# Altium schematic symbol library SBC5.SchLib: 66 symbols (part 1 of 4)
Pins are listed as number, name and electrical type; pins without a type are passive.

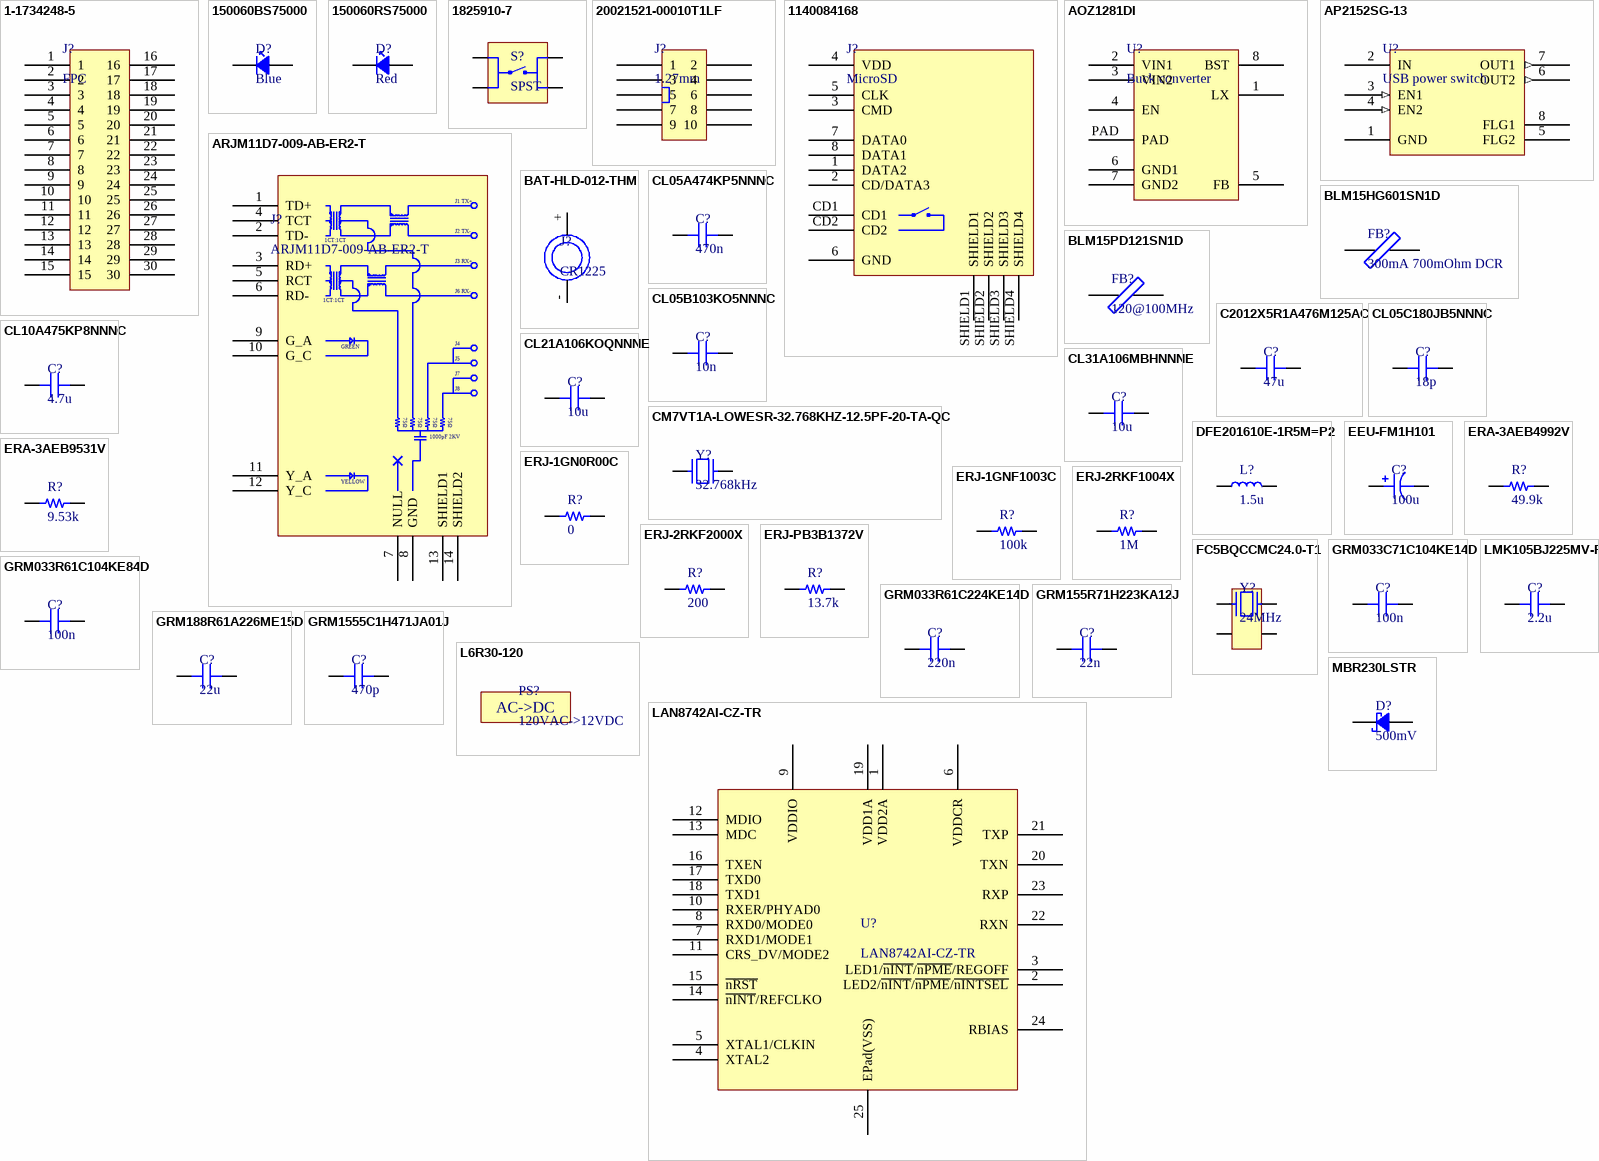
[diagram p0: symbols 1-1734248-5 to MBR230LSTR]

## 1-1734248-5
designator J?, comment FPC
FFC & FPC Connectors 15P 1.0 FPC, Zip V/T SMT; Manufacturer: TE Connectivity; Manufacturer Part Number: 1-1734248-5; Number of Contacts: 15; Current Rating: 1A; Voltage Rating: 125V; Gender: Receptacle; Shielding: Unshielded; Connector Type: Receptacle,Connector,Socket; Wire/Cable Type: Flat Flex; Connector System: Flex-to-Board; Mating Alignment: Yes (With); PCB Mount Alignment: No (Without); PCB Mount Retention: With; Circuit Application: Signal; Pitch: 1mm; Supplier 1: Digi-Key; Supplier Part Number 1: A101418CT-ND; RoHS: Yes; Category: FFC / FPC; Stock 1: 5987; Pricing 1: 1=0.98000, 10=0.86000, 25=0.80920, 50=0.77540, 100=0.74170, 250=0.67432, 500=0.60688 (USD); Mount: Surface Mount; Contact Plating: Gold; Contact Material: Bronze; Housing Color: Black; Housing Material: Thermoplastic; Min Operating Temperature: -4°C; Max Operating Temperature: 185°C; Number of Rows: 1; Termination: SMD/SMT; Orientation: Straight; Package Quantity: 1000; Packaging: Tape and Reel; Number of Positions: 15; Sealable: No (Without); Shrouded: Yes (With); Contact Current Rating: 1A; Length: 22.4mm; Width: 4.6mm; Height: 7.7mm; Depth: 4.6mm; ELV: Compliant; REACH SVHC: Unknown; Flammability Rating: UL94 V-0; ComponentLink1URL: https://datasheet.ciiva.com/672/eng-cd-1734248-e1-672176.pdf?src-supplier=Digi-Key; ComponentLink1Description: https://datasheet.ciiva.com/672/eng-cd-1734248-e1-672176.pdf?src-supplier=Digi-Key; ComponentLink2URL: https://datasheet.ciiva.com/672/eng-cd-1734248-e1-672177.pdf?src-supplier=Digi-Key; ComponentLink2Description: https://datasheet.ciiva.com/672/eng-cd-1734248-e1-672177.pdf?src-supplier=Digi-Key; ComponentLink3URL: https://datasheet.ciiva.com/672/eng-cd-1734248-e1-672178.pdf?src-supplier=Digi-Key; ComponentLink3Description: https://datasheet.ciiva.com/672/eng-cd-1734248-e1-672178.pdf?src-supplier=Digi-Key; ComponentLink4URL: https://datasheet.ciiva.com/7989/eng-ds-1-1773440-6-0506-7989477.pdf?src-supplier=Element14; ComponentLink4Description: https://datasheet.ciiva.com/7989/eng-ds-1-1773440-6-0506-7989477.pdf?src-supplier=Element14; ComponentLink5URL: https://datasheet.ciiva.com/16660/eng-ds-1-1773440-6-0506-16660185.pdf?src-supplier=Avnet+Europe; ComponentLink5Description: https://datasheet.ciiva.com/16660/eng-ds-1-1773440-6-0506-16660185.pdf?src-supplier=Avnet+Europe
footprint 1-1734248-5
pins: 1, 2, 3, 4, 5, 6, 7, 8, 9, 10, 11, 12, 13, 14, 15, 16, 17, 18, 19, 20, 21, 22, 23, 24, 25, 26, 27, 28, 29, 30

## 150060BS75000
designator D?, comment Blue
WURTH ELEKTRONIK - 150060BS75000 - LED, Blau, Oberflächenmontage, 603, 30 mA, 3.2 V, 470 nm; Manufacturer: Wurth Electronics; Luminous Intensity: 145mcd; Forward Current: 30mA; Forward Voltage: 3.2V; Wavelength: 470nm; Viewing Angle: 140°; Lens Style: Clear,Rectangular; Test Current: 20mA; Supplier 1: Digi-Key; Supplier Part Number 1: 732-4966-1-ND; Manufacturer Part Number: 150060BS75000; RoHS: Yes; Category: LEDs; Stock 1: 49172; Pricing 1: 1=0.17000 (USD); Mount: Surface Mount; Case/Package: 0603; Color: Blue; Case Code (Metric): 1608; Case Code (Imperial): 0603; Min Operating Temperature: -40°C; Max Operating Temperature: 85°C; Package Quantity: 4000; Packaging: Cut Tape; Dominant Wavelength: 470nm; Length: 1.6mm; Width: 0.8mm; Height: 0.7mm; REACH SVHC: Unknown; RoHS Compliant: Yes; ComponentLink1URL: https://datasheet.ciiva.com/29563/150060bs75000-29563034.pdf?src-supplier=Digi-Key; ComponentLink1Description: https://datasheet.ciiva.com/29563/150060bs75000-29563034.pdf?src-supplier=Digi-Key; ComponentLink2URL: https://datasheet.ciiva.com/29279/759426-da-01-en-chipled-0603-w-kl-blau-150060bs75000-29279193.pdf?src-supplier=Conrad; ComponentLink2Description: https://datasheet.ciiva.com/29279/759426-da-01-en-chipled-0603-w-kl-blau-150060bs75000-29279193.pdf?src-supplier=Conrad; ComponentLink3URL: https://datasheet.ciiva.com/29563/150060bs75000-29563035.pdf?src-supplier=Digi-Key; ComponentLink3Description: https://datasheet.ciiva.com/29563/150060bs75000-29563035.pdf?src-supplier=Digi-Key; ComponentLink4URL: https://datasheet.ciiva.com/22656/1911343-22656939.pdf?src-supplier=Element14; ComponentLink4Description: https://datasheet.ciiva.com/22656/1911343-22656939.pdf?src-supplier=Element14; ComponentLink5URL: https://datasheet.ciiva.com/29563/150060bs75000-29563036.pdf?src-supplier=Digi-Key; ComponentLink5Description: https://datasheet.ciiva.com/29563/150060bs75000-29563036.pdf?src-supplier=Digi-Key; ComponentLink6URL: https://datasheet.ciiva.com/48430/150060bs75000-eng-tds-48430039.pdf?src-supplier=Distrelec; ComponentLink6Description: https://datasheet.ciiva.com/48430/150060bs75000-eng-tds-48430039.pdf?src-supplier=Distrelec
footprint D0603
pins: A, K

## 150060RS75000
designator D?, comment Red
WURTH ELEKTRONIK - 150060RS75000 - LED, Red, 625 nm, 2 V, 30 mA, 250 mcd RoHS Compliant: Yes; Manufacturer: Wurth Electronics; Viewing Angle: 140°; Lens Style: Clear,Rectangular; Luminous Intensity: 250mcd; Forward Current: 30mA; Forward Voltage: 2V; Wavelength: 625nm; Test Current: 20mA; Supplier 1: Digi-Key; Supplier Part Number 1: 732-4978-1-ND; Manufacturer Part Number: 150060RS75000; RoHS: Yes; Category: LEDs; Stock 1: 175802; Pricing 1: 1=0.14000, 50=0.13300, 100=0.11400, 500=0.09990 (USD); Mount: Surface Mount; Case/Package: 0603; Color: Red; Case Code (Metric): 1608; Case Code (Imperial): 0603; Min Operating Temperature: -40°C; Max Operating Temperature: 85°C; Package Quantity: 1; Packaging: Cut Tape; Dominant Wavelength: 625nm; Length: 1.6mm; Width: 0.8mm; Height: 0.7mm; REACH SVHC: Unknown; RoHS Compliant: Yes; ComponentLink1URL: https://datasheet.ciiva.com/29563/150060rs75000-29563040.pdf?src-supplier=Digi-Key; ComponentLink1Description: https://datasheet.ciiva.com/29563/150060rs75000-29563040.pdf?src-supplier=Digi-Key; ComponentLink2URL: https://datasheet.ciiva.com/29279/759428-da-01-en-chipled-0603-w-kl-rot-150060rs75000-29279196.pdf?src-supplier=Conrad; ComponentLink2Description: https://datasheet.ciiva.com/29279/759428-da-01-en-chipled-0603-w-kl-rot-150060rs75000-29279196.pdf?src-supplier=Conrad
footprint D0603
pins: A, K

## 1825910-7
designator S?, comment SPST
TE CONNECTIVITY / ALCOSWITCH         1825910-7             Tactile Switch, Non Illuminated, 24 V, 50 mA, 260 gf, Through Hole; Mechanical Life: 100000Cycles; Actuator Material: PBT; Actuator Color: Red; Operating Force: 2.55N; Max Voltage Rating (DC): 24V; Illumination Type: Non-Illuminated,Illuminated; Contact Resistance: 100mR; Contact Current Rating: 50mA; Switch Travel: 0.25mm; Switch Function: Off-Mom; Actuator Type: Standard; Actuator Length: 0.055inch; Supplier 1: Digi-Key; Supplier Part Number 1: 450-1804-ND; Manufacturer: TE Connectivity; Manufacturer Part Number: 1825910-7; RoHS: Yes; Category: Pushbutton Switches; Stock 1: 14477; Pricing 1: 1=0.11000, 10=0.10600, 25=0.10080, 100=0.09160, 250=0.08612, 500=0.07878, 1000=0.06595, 5000=0.06046, 10000=0.05679 (USD); Mount: Through Hole; Contact Material: Copper Alloy; Contact Plating: Silver; Min Operating Temperature: -35°C; Max Operating Temperature: 85°C; Throw Configuration: SPST; Termination: PC Pins; Packaging: Loose Piece; Package Quantity: 750; Type: Switch; Voltage Rating (DC): 24V; Electrical Life: 100000Cycles; Orientation: Straight; Series: FSMJ; Max Current Rating: 50mA; Length: 5.99mm; Depth: 7.8mm; Radiation Hardening: No; RoHS Compliant: Yes; REACH SVHC: Unknown; ELV: Compliant; Lead Free: Lead Free; ComponentLink1URL: https://datasheet.ciiva.com/30117/17-30117153.pdf?src-supplier=Onlinecomponents.com; ComponentLink1Description: https://datasheet.ciiva.com/30117/17-30117153.pdf?src-supplier=Onlinecomponents.com; ComponentLink2URL: https://datasheet.ciiva.com/16312/1825910-7-16312610.pdf?src-supplier=Future+Electronics; ComponentLink2Description: https://datasheet.ciiva.com/16312/1825910-7-16312610.pdf?src-supplier=Future+Electronics; ComponentLink3URL: https://datasheet.ciiva.com/16987/0900766b808a3755-16987820.pdf?src-supplier=Allied+Electronics; ComponentLink3Description: https://datasheet.ciiva.com/16987/0900766b808a3755-16987820.pdf?src-supplier=Allied+Electronics
footprint 1825910-7
pins: 1, 2, 3, 4

## 20021521-00010T1LF
designator J?, comment 1.27mm
CONN HEADER SMD 10POS 1.27MM; Manufacturer: Amphenol FCI; Manufacturer Part Number: 20021521-00010T1LF; Number of Positions: 10; Connector Type: Male Pin; Current Rating: 1A; Voltage Rating: 125V; Contact Resistance: 30mR; Gender: Male; Row Spacing: 0.05inch; Supplier 1: Digi-Key; Supplier Part Number 1: 609-4054-ND; RoHS: Yes; Category: Headers and Wire Housings; Stock 1: 5644; Pricing 1: 1=1.26000, 10=1.10500, 100=0.95300, 500=0.77976, 1000=0.69312, 5000=0.60648, 10000=0.57616 (USD); Mount: Surface Mount; Contact Plating: Gold; Contact Material: Copper Alloy; Color: Black; Housing Color: Black; Housing Material: Plastic; Min Operating Temperature: -40°C; Max Operating Temperature: 85°C; Number of Rows: 2; Termination: SMD/SMT; Packaging: Rail/Tube; Number of Contacts: 10; Package Quantity: 22; Max Voltage Rating (AC): 125V; Orientation: Straight; Series: Minitek; Length: 10.11mm; Pitch: 1.27mm; Depth: 5.1mm; REACH SVHC: No SVHC; Lead Free: Lead Free; RoHS Compliant: Yes; ComponentLink1URL: https://datasheet.ciiva.com/26900/getdatasheetpartid-733986-26900911.pdf?src-supplier=Verical; ComponentLink1Description: https://datasheet.ciiva.com/26900/getdatasheetpartid-733986-26900911.pdf?src-supplier=Verical; ComponentLink2URL: https://datasheet.ciiva.com/10140/20021521-10140598.pdf?src-supplier=Avnet; ComponentLink2Description: https://datasheet.ciiva.com/10140/20021521-10140598.pdf?src-supplier=Avnet; ComponentLink3URL: https://datasheet.ciiva.com/17011/70277217-17011530.pdf?src-supplier=Allied+Electronics; ComponentLink3Description: https://datasheet.ciiva.com/17011/70277217-17011530.pdf?src-supplier=Allied+Electronics; ComponentLink4URL: https://datasheet.ciiva.com/16691/20021521-16691102.pdf?src-supplier=Avnet+Europe; ComponentLink4Description: https://datasheet.ciiva.com/16691/20021521-16691102.pdf?src-supplier=Avnet+Europe
footprint 20021521-00010T1LF
pins: 1, 2, 3, 4, 5, 6, 7, 8, 9, 10

## 1140084168
designator J?, comment MicroSD
Conn; IC Socket; Micro SD; Right Angle; PCB Mount; MicroSD Ser.; Manufacturer: Amphenol Commercial; Manufacturer Part Number: 1140084168; Connector Type: Connector; Number of Contacts: 8; Gender: Receptacle; Pitch: 1.1mm; Supplier 1: Digi-Key; Supplier Part Number 1: 114-00841-68-1-ND; RoHS: Yes; Category: Memory Connectors; Stock 1: 15252; Pricing 1: 1=1.26000, 10=1.14000, 25=1.07000, 50=1.02360, 100=0.97710, 250=0.88408, 500=0.81428 (USD); Mount: Surface Mount; Contact Plating: Gold; Housing Material: Polymer; Contact Material: Copper Alloy,Copper; Packaging: Tape and Reel; Orientation: Right Angle; Package Quantity: 7500; Number of Rows: 1; Termination: SMD/SMT; Length: 15.6mm; Height: 1.55mm; Depth: 11.45mm; Radiation Hardening: No; REACH SVHC: Unknown; Flammability Rating: UL94 V-0; Lead Free: Lead Free; ComponentLink1URL: https://datasheet.ciiva.com/24241/11400841-283410-24241569.pdf?src-supplier=Mouser; ComponentLink1Description: https://datasheet.ciiva.com/24241/11400841-283410-24241569.pdf?src-supplier=Mouser; ComponentLink2URL: https://datasheet.ciiva.com/28408/11400841-28408193.pdf?src-supplier=Element14; ComponentLink2Description: https://datasheet.ciiva.com/28408/11400841-28408193.pdf?src-supplier=Element14; ComponentLink3URL: https://datasheet.ciiva.com/9464/1140084168-9464901.pdf?src-supplier=Avnet; ComponentLink3Description: https://datasheet.ciiva.com/9464/1140084168-9464901.pdf?src-supplier=Avnet; ComponentLink4URL: https://datasheet.ciiva.com/48965/70323450-48965706.pdf?src-supplier=Allied+Electronics; ComponentLink4Description: https://datasheet.ciiva.com/48965/70323450-48965706.pdf?src-supplier=Allied+Electronics; ComponentLink5URL: https://datasheet.ciiva.com/16655/1140084168-16655293.pdf?src-supplier=Avnet+Europe; ComponentLink5Description: https://datasheet.ciiva.com/16655/1140084168-16655293.pdf?src-supplier=Avnet+Europe
footprint 114-00841-68
pins: 1 DATA2, 2 CD/DATA3, 3 CMD, 4 VDD, 5 CLK, 6 GND, 7 DATA0, 8 DATA1, CD1, CD2, SHIELD1, SHIELD2, SHIELD3, SHIELD4

## AOZ1281DI
designator U?, comment Buck converter
Conv DC-DC 3V to 26V Step Down Single-Out 0.8V to 22.1V 1.8A 8-Pin DFN EP T/R; Manufacturer: Alpha & Omega Semiconductor; Manufacturer Part Number: AOZ1281DI; Number of Outputs: 1; Efficiency: 95%; Min Output Voltage: 800mV; Switching Frequency: 1.5MHz; Synchronous Rectifier: No; Output Type: Adjustable; Output Configuration: Positive; Supplier 1: Digi-Key; Supplier Part Number 1: 785-1276-1-ND; RoHS: Yes; Category: Voltage Regulators - Switching; Stock 1: 15925; Pricing 1: 1=0.81000, 10=0.71400, 25=0.67040, 100=0.50820, 250=0.43248, 500=0.41086, 1000=0.31355 (USD); Mount: Surface Mount; Case/Package: DFN; Number of Pins: 8; Min Operating Temperature: -40°C; Max Operating Temperature: 85°C; Output Current: 1.8A; Packaging: Tape and Reel; Min Input Voltage: 3V; Max Input Voltage: 26V; Max Output Voltage: 22.1V; Series: EZBuck™; RoHS Compliant: Yes; ComponentLink1URL: https://datasheet.ciiva.com/2028/aoz1281di-2028092.pdf?src-supplier=Digi-Key; ComponentLink1Description: https://datasheet.ciiva.com/2028/aoz1281di-2028092.pdf?src-supplier=Digi-Key; ComponentLink2URL: https://datasheet.ciiva.com/2028/aoz1281di-2028093.pdf?src-supplier=Digi-Key; ComponentLink2Description: https://datasheet.ciiva.com/2028/aoz1281di-2028093.pdf?src-supplier=Digi-Key; ComponentLink3URL: https://datasheet.ciiva.com/2028/aoz1281di-2028094.pdf?src-supplier=Digi-Key; ComponentLink3Description: https://datasheet.ciiva.com/2028/aoz1281di-2028094.pdf?src-supplier=Digi-Key
footprint AOZ1281DI (PQFN, 8-Leads, Body 2.00x2.00mm, Pitch 0.50mm, Thermal Pad 0.90x1.50mm, IPC Medium Density)
pins: 1 LX, 2 VIN1, 3 VIN2, 4 EN, 5 FB, 6 GND1, 7 GND2, 8 BST, PAD

## AP2152SG-13
designator U?, comment USB power switch
IC PWR SW USB 2CH 0.5A 8-SOIC; Manufacturer: Diodes; Manufacturer Part Number: AP2152SG-13; Number of Outputs: 2; Current Rating: 800mA; Max Supply Voltage: 5.5V; Min Supply Voltage: 2.7V; Interface: On/Off; Max Output Current: 500mA; On-State Resistance: 150mR; Fault Protection: Over Temperature,Reverse Current; Output Configuration: High Side; On-state Resistance-Max: 160MR; Supplier 1: Digi-Key; Supplier Part Number 1: AP2152SGDICT-ND; RoHS: Yes; Category: Hot Swap Controllers; Stock 1: 9416; Pricing 1: 1=0.48000, 10=0.41200, 25=0.38480, 100=0.28600, 250=0.24200, 500=0.23100 (USD); Mount: Surface Mount; Case/Package: SOP; Number of Pins: 8; Weight: 0.00261oz; Min Operating Temperature: -40°C; Max Operating Temperature: 85°C; Packaging: Tape and Reel; Package Quantity: 2500; Series: -; Number of Switches: 2; Rated Current-Max: 800mA; Radiation Hardening: No; Lead Free: Lead Free; RoHS Compliant: Yes; ComponentLink1URL: https://datasheet.ciiva.com/15108/getdatasheetpartid-687500-15108893.pdf?src-supplier=Verical; ComponentLink1Description: https://datasheet.ciiva.com/15108/getdatasheetpartid-687500-15108893.pdf?src-supplier=Verical; ComponentLink2URL: https://datasheet.ciiva.com/16415/ap2142-52-16415693.pdf?src-supplier=Future+Electronics; ComponentLink2Description: https://datasheet.ciiva.com/16415/ap2142-52-16415693.pdf?src-supplier=Future+Electronics; ComponentLink3URL: https://datasheet.ciiva.com/4924/ap2142-52-4924670.pdf?src-supplier=Mouser; ComponentLink3Description: https://datasheet.ciiva.com/4924/ap2142-52-4924670.pdf?src-supplier=Mouser; ComponentLink4URL: https://datasheet.ciiva.com/17226/ap2142-52-17226168.pdf?src-supplier=Avnet+Europe; ComponentLink4Description: https://datasheet.ciiva.com/17226/ap2142-52-17226168.pdf?src-supplier=Avnet+Europe; ComponentLink5URL: https://datasheet.ciiva.com/3234/ap2142-52-3234540.pdf?src-supplier=Avnet; ComponentLink5Description: https://datasheet.ciiva.com/3234/ap2142-52-3234540.pdf?src-supplier=Avnet
footprint SO-8 (SOP, 8-Leads, Body 4.90x3.90mm, Pitch 1.27mm, IPC Medium Density)
pins: 1 GND, 2 IN (power), 3 EN1 (in), 4 EN2 (in), 5 FLG2 (oc), 6 OUT2 (out), 7 OUT1 (out), 8 FLG1 (oc)

## ARJM11D7-009-AB-ER2-T
designator J?
Conn RJ-45 F 8 POS 1.27mm Solder RA Thru-Hole 12 Terminal 1 Port T/R; Manufacturer: Abracon; Connector Type: RJ45; Direction: Up; Number of Ports: 1; Number of Cores per Jack: 4; Shielding: Shielded; Supplier 1: Digi-Key; Supplier Part Number 1: 535-14135-1-ND; Manufacturer Part Number: ARJM11D7-009-AB-ER2-T; RoHS: No; Category: Modular / Ethernet Connectors; Stock 1: 19; Pricing 1: 1=3.53000, 10=3.38700, 25=3.10480 (USD); Mount: Through Hole; Color: Green,Yellow; Contact Plating: Gold; Min Operating Temperature: -40°C; Max Operating Temperature: 85°C; Packaging: Tape and Reel; Number of Rows: 1; Termination: Solder; ComponentLink1URL: https://abracon.com/Magnetics/ARJM11.pdf?src-supplier=Digi-Key; ComponentLink1Description: https://abracon.com/Magnetics/ARJM11.pdf?src-supplier=Digi-Key
footprint ARJM11D7-009-AB-ER2-T
pins: 1 TD+ "Default Function: MIPI_VDDA_1P8", 2 TD- "Default Function: MIPI_VDDA_1P8", 3 RD+ "Default Function: MIPI_VDDA_1P8", 4 TCT "Default Function: MIPI_VDDA_1P8", 5 RCT "Default Function: MIPI_VDDA_1P8", 6 RD- "Default Function: MIPI_VDDA_1P8", 7 NULL, 8 GND, 9 G_A "Default Function: MIPI_VDDA_1P8", 10 G_C "Default Function: MIPI_VDDA_1P8", 11 Y_A "Default Function: MIPI_VDDA_1P8", 12 Y_C "Default Function: MIPI_VDDA_1P8", 13 SHIELD1 "Default Function: MIPI_VDDA_1P8", 14 SHIELD2 "Default Function: MIPI_VDDA_1P8"
text: J1 TX+; J2 TX-; 1CT:1CT; J3 RX+; J6 RX-; GREEN; J4; J5; J7; J8; 75Ω; 1000pF 2KV; YELLOW

## BAT-HLD-012-THM
designator J?, comment CR1225
BATTERY RETAINER COIN PC PIN; Manufacturer: Linx; Manufacturer Part Number: BAT-HLD-012-THM; Number of Cells: 1; Supplier 1: Digi-Key; Supplier Part Number 1: BAT-HLD-012-THM-ND; RoHS: Yes; Category: Uncategorized; Stock 1: 1284; Pricing 1: 1=0.29000, 10=0.27800, 25=0.26600, 100=0.24100, 250=0.23000, 500=0.21900, 1000=0.19600, 2000=0.18000, 5000=0.17765 (USD); Mount: Through Hole,PCB; Termination: PC Pin; Package Quantity: 1000; Number of Batteries: 1; Lead Free: Lead Free; ComponentLink1URL: https://datasheet.ciiva.com/4/bat-hld-012-thm-4039.pdf?src-supplier=Digi-Key; ComponentLink1Description: https://datasheet.ciiva.com/4/bat-hld-012-thm-4039.pdf?src-supplier=Digi-Key; ComponentLink2URL: https://datasheet.ciiva.com/4642/bat-hld-012-thm20diagram-201689-4642575.pdf?src-supplier=Mouser; ComponentLink2Description: https://datasheet.ciiva.com/4642/bat-hld-012-thm20diagram-201689-4642575.pdf?src-supplier=Mouser
footprint BAT-HLD-012-THM
pins: + (power), -

## BLM15HG601SN1D
designator FB?, comment 300mA 700mOhm DCR
Ferrite Beads Multi-Layer 600Ohm 25% 100MHz 300mA 700mOhm DCR 0402 Paper T/R; Manufacturer: Murata; Manufacturer Part Number: BLM15HG601SN1D; Material: Steel,Ferrite; Impedance: 600R; Number of Lines: 1; DC Resistance (DCR): 700mR; Shielding: Unshielded; Supplier 1: Digi-Key; Supplier Part Number 1: 490-3998-1-ND; RoHS: Yes; Category: Ferrite Beads and Chips; Stock 1: 75790; Pricing 1: 1=0.21000, 10=0.17000, 25=0.13200, 50=0.10940, 100=0.09430, 250=0.07540, 500=0.06786, 1000=0.05655, 5000=0.05278 (USD); Case/Package: 0402; Number of Pins: 2; Core Material: Ferrite; Case Code (Metric): 1005; Case Code (Imperial): 0402; Min Operating Temperature: -55°C; Max Operating Temperature: 125°C; Package Quantity: 1; Tolerance: 25%; Packaging: Tape and Reel; Current Rating: 300mA; Max Current Rating: 300mA; Max DC Current: 300mA; Termination: SMD/SMT; Test Frequency: 100MHz; DC Current: 300mA; Frequency: 100MHz; Number of Circuits: 1; Length: 1mm; Width: 0.5mm; Height: 0.5mm; Depth: 0.5mm; Radiation Hardening: No; REACH SVHC: No SVHC; Military Standard: Not; Lead Free: Lead Free; ComponentLink1URL: https://datasheet.ciiva.com/18183/getdatasheetpartid-238207-18183177.pdf?src-supplier=Verical; ComponentLink1Description: https://datasheet.ciiva.com/18183/getdatasheetpartid-238207-18183177.pdf?src-supplier=Verical; ComponentLink2URL: https://datasheet.ciiva.com/41449/001172204-da-01-en-drossel-0402-600r-1-0x0-5mm-10000st-41449492.pdf?src-supplier=Conrad; ComponentLink2Description: https://datasheet.ciiva.com/41449/001172204-da-01-en-drossel-0402-600r-1-0x0-5mm-10000st-41449492.pdf?src-supplier=Conrad; ComponentLink3URL: https://datasheet.ciiva.com/41425/001171685-da-01-en-chip-drossel0402-600r-300ma-1-0x0-5mm-41425771.pdf?src-supplier=Conrad; ComponentLink3Description: https://datasheet.ciiva.com/41425/001171685-da-01-en-chip-drossel0402-600r-300ma-1-0x0-5mm-41425771.pdf?src-supplier=Conrad; ComponentLink4URL: https://datasheet.ciiva.com/1014/l0110s0101blm15h-1014466.pdf?src-supplier=Digi-Key; ComponentLink4Description: https://datasheet.ciiva.com/1014/l0110s0101blm15h-1014466.pdf?src-supplier=Digi-Key; ComponentLink5URL: https://datasheet.ciiva.com/1014/l0110s0101blm15h-1014467.pdf?src-supplier=Digi-Key; ComponentLink5Description: https://datasheet.ciiva.com/1014/l0110s0101blm15h-1014467.pdf?src-supplier=Digi-Key; ComponentLink6URL: https://datasheet.ciiva.com/1466/5168-1466917.pdf?src-supplier=Element14; ComponentLink6Description: https://datasheet.ciiva.com/1466/5168-1466917.pdf?src-supplier=Element14; ComponentLink7URL: https://datasheet.ciiva.com/1466/5168-1466918.pdf?src-supplier=Element14; ComponentLink7Description: https://datasheet.ciiva.com/1466/5168-1466918.pdf?src-supplier=Element14; ComponentLink8URL: https://datasheet.ciiva.com/3081/l0110s0101blm15h-3081608.pdf?src-supplier=Avnet; ComponentLink8Description: https://datasheet.ciiva.com/3081/l0110s0101blm15h-3081608.pdf?src-supplier=Avnet; ComponentLink9URL: https://datasheet.ciiva.com/6212/l0110s0101blm15h-6212328.pdf?src-supplier=Digi-Key; ComponentLink9Description: https://datasheet.ciiva.com/6212/l0110s0101blm15h-6212328.pdf?src-supplier=Digi-Key; ComponentLink10URL: https://datasheet.ciiva.com/16204/l0110s0101blm15h-16204027.pdf?src-supplier=Future+Electronics; ComponentLink10Description: https://datasheet.ciiva.com/16204/l0110s0101blm15h-16204027.pdf?src-supplier=Future+Electronics
footprint L0402
pins: 1, 2

## BLM15PD121SN1D
designator FB?, comment 120@100MHz
MURATA - BLM15PD121SN1D - Ferrite Bead, 0402 [1005 Metric], 120 ohm, 1.3 A, BLM15PD Series, 0.09 ohm, ± 25%; Material: Steel,Ferrite; Impedance: 120R; DC Resistance (DCR): 90mR; Max DC Current: 1.3A; Number of Lines: 1; Test Frequency: 100MHz; Supplier 1: Digi-Key; Supplier Part Number 1: 490-5203-1-ND; Manufacturer: Murata; Manufacturer Part Number: BLM15PD121SN1D; RoHS: Yes; Category: Inductors; Stock 1: 519984; Pricing 1: 1=0.10000, 10=0.07900, 25=0.07080, 50=0.05180, 100=0.04480, 250=0.03536, 500=0.02984, 1000=0.02514, 5000=0.02239 (USD); Case/Package: 0402; Number of Pins: 2; Core Material: Ferrite; Case Code (Metric): 1005; Case Code (Imperial): 0402; Min Operating Temperature: -55°C; Max Operating Temperature: 125°C; Tolerance: 25%; Package Quantity: 1; Packaging: Tape and Reel; Current Rating: 1.3A; Max Current Rating: 1.3A; Termination: SMD/SMT; DC Current: 1.3A; Number of Circuits: 1; Series: BLM15PD; DC Resistance-Max: 90mR; Length: 1mm; Width: 0.5mm; Height: 0.5mm; Depth: 0.55mm; Radiation Hardening: No; REACH SVHC: No SVHC; Military Standard: Not; Lead Free: Lead Free; RoHS Compliant: Yes; ComponentLink1URL: https://datasheet.ciiva.com/18093/getdatasheetpartid-195858-18093157.pdf?src-supplier=Verical; ComponentLink1Description: https://datasheet.ciiva.com/18093/getdatasheetpartid-195858-18093157.pdf?src-supplier=Verical; ComponentLink2URL: https://datasheet.ciiva.com/11800/0900766b811b5866-11800860.pdf?src-supplier=RSComponents; ComponentLink2Description: https://datasheet.ciiva.com/11800/0900766b811b5866-11800860.pdf?src-supplier=RSComponents; ComponentLink3URL: https://datasheet.ciiva.com/41425/001171686-da-01-en-chip-drossel0402-120r-1300ma-1-0x0-5mm-41425776.pdf?src-supplier=Conrad; ComponentLink3Description: https://datasheet.ciiva.com/41425/001171686-da-01-en-chip-drossel0402-120r-1300ma-1-0x0-5mm-41425776.pdf?src-supplier=Conrad; ComponentLink4URL: https://datasheet.ciiva.com/41449/001172205-da-01-en-drossel-0402-120r-11-0x0-5mm-10000st-41449495.pdf?src-supplier=Conrad; ComponentLink4Description: https://datasheet.ciiva.com/41449/001172205-da-01-en-drossel-0402-120r-11-0x0-5mm-10000st-41449495.pdf?src-supplier=Conrad; ComponentLink5URL: https://datasheet.ciiva.com/1012/l0110e-1012434.pdf?src-supplier=Digi-Key; ComponentLink5Description: https://datasheet.ciiva.com/1012/l0110e-1012434.pdf?src-supplier=Digi-Key; ComponentLink6URL: https://datasheet.ciiva.com/1012/l0110e-1012435.pdf?src-supplier=Digi-Key; ComponentLink6Description: https://datasheet.ciiva.com/1012/l0110e-1012435.pdf?src-supplier=Digi-Key; ComponentLink7URL: https://datasheet.ciiva.com/1012/l0110e-1012436.pdf?src-supplier=Digi-Key; ComponentLink7Description: https://datasheet.ciiva.com/1012/l0110e-1012436.pdf?src-supplier=Digi-Key
footprint L0402
pins: 1, 2

## C2012X5R1A476M125AC
designator C?, comment 47u
TDK   C2012X5R1A476M125AC   SMD Multilayer Ceramic Capacitor, C Series, 47 F,  20%, X5R, 10 V, 0805 [2012 Metric]; Capacitance: 47uF; Voltage Rating: 10V; Supplier 1: Digi-Key; Supplier Part Number 1: 445-8239-1-ND; Manufacturer: TDK; Manufacturer Part Number: C2012X5R1A476M125AC; RoHS: Yes; Category: Ceramic Capacitors; Stock 1: 147108; Pricing 1: 1=0.85000, 10=0.64400, 50=0.53460, 100=0.46040, 500=0.35640, 1000=0.30690 (USD); Mount: Surface Mount; Case/Package: 0805; Case Code (Metric): 2012; Case Code (Imperial): 0805; Dielectric Material: Ceramic; Weight: 0.000194oz; Min Operating Temperature: -55°C; Max Operating Temperature: 85°C; Tolerance: 20%; Packaging: Tape and Reel; Voltage Rating (DC): 10V; Dielectric: X5R; Termination: SMD/SMT; Package Quantity: 1; Resistor Type: Ceramic; Voltage: 10V; Series: C; Length: 2mm; Width: 0.049inch; Height: 1.25mm; Depth: 1.25mm; Thickness: 0.057inch; REACH SVHC: No SVHC; Lead Free: Lead Free; RoHS Compliant: Yes; ComponentLink1URL: https://datasheet.ciiva.com/24216/c2012x5r1a476m125ac-264921-24216523.pdf?src-supplier=Mouser; ComponentLink1Description: https://datasheet.ciiva.com/24216/c2012x5r1a476m125ac-264921-24216523.pdf?src-supplier=Mouser; ComponentLink2URL: https://datasheet.ciiva.com/24191/c2012x5r1a476m125ac-24191773.pdf?src-supplier=Future+Electronics; ComponentLink2Description: https://datasheet.ciiva.com/24191/c2012x5r1a476m125ac-24191773.pdf?src-supplier=Future+Electronics; ComponentLink3URL: https://datasheet.ciiva.com/6259/tdkmlcccaprange-6259575.pdf?src-supplier=Digi-Key; ComponentLink3Description: https://datasheet.ciiva.com/6259/tdkmlcccaprange-6259575.pdf?src-supplier=Digi-Key; ComponentLink4URL: https://datasheet.ciiva.com/6259/tdkmlcccaprange-6259576.pdf?src-supplier=Digi-Key; ComponentLink4Description: https://datasheet.ciiva.com/6259/tdkmlcccaprange-6259576.pdf?src-supplier=Digi-Key; ComponentLink5URL: https://datasheet.ciiva.com/6259/tdkmlcccaprange-6259577.pdf?src-supplier=Digi-Key; ComponentLink5Description: https://datasheet.ciiva.com/6259/tdkmlcccaprange-6259577.pdf?src-supplier=Digi-Key; ComponentLink6URL: https://datasheet.ciiva.com/7975/1796654-7975085.pdf?src-supplier=Element14; ComponentLink6Description: https://datasheet.ciiva.com/7975/1796654-7975085.pdf?src-supplier=Element14; ComponentLink7URL: https://datasheet.ciiva.com/22694/1796654-22694142.pdf?src-supplier=Element14; ComponentLink7Description: https://datasheet.ciiva.com/22694/1796654-22694142.pdf?src-supplier=Element14
footprint C0805 (Chip Capacitor, 2-Leads, Body 2.00x1.25mm, IPC Medium Density)
pins: 1, 2

## CL05A474KP5NNNC
designator C?, comment 470n
Cap Ceramic 0.47uF 10V X5R 10% SMD 0402 85C T/R; Manufacturer: Samsung; Manufacturer Part Number: CL05A474KP5NNNC; Capacitance: 470nF; Supplier 1: Digi-Key; Supplier Part Number 1: 1276-1173-1-ND; RoHS: Yes; Category: Ceramic Capacitors; Stock 1: 1598783; Pricing 1: 1=0.10000, 10=0.06000, 50=0.03260, 100=0.02670, 500=0.01906, 1000=0.01497, 2500=0.01361, 5000=0.01252 (USD); Mount: Surface Mount; Case/Package: 0402; Case Code (Metric): 1005; Case Code (Imperial): 0402; Min Operating Temperature: -55°C; Max Operating Temperature: 85°C; Tolerance: 10%; Dielectric: X5R; Packaging: Tape and Reel; Voltage Rating: 10V; Voltage Rating (DC): 10V; Series: CL; Construction: Flat; Length: 1mm; Width: 0.02inch; Height: 0.5mm; Thickness: 0.022inch; Depth: 0.5mm; Radiation Hardening: No; Lead Free: Lead Free; RoHS Compliant: Yes; ComponentLink1URL: https://datasheet.ciiva.com/25710/cl05a474kp5nnnc-25710324.pdf?src-supplier=Digi-Key; ComponentLink1Description: https://datasheet.ciiva.com/25710/cl05a474kp5nnnc-25710324.pdf?src-supplier=Digi-Key; ComponentLink2URL: https://datasheet.ciiva.com/26838/getdatasheetpartid-355286-26838191.pdf?src-supplier=Verical; ComponentLink2Description: https://datasheet.ciiva.com/26838/getdatasheetpartid-355286-26838191.pdf?src-supplier=Verical; ComponentLink3URL: https://datasheet.ciiva.com/16437/cl05b104kq5nnnc-16437351.pdf?src-supplier=Future+Electronics; ComponentLink3Description: https://datasheet.ciiva.com/16437/cl05b104kq5nnnc-16437351.pdf?src-supplier=Future+Electronics
footprint C0402
pins: 1, 2

## CL05B103KO5NNNC
designator C?, comment 10n
SAMSUNG ELECTRO-MECHANICS - CL05B103KO5NNNC - SMD Multilayer Ceramic Capacitor, 0.01 µF, 16 V, 0402 [1005 Metric], ± 10%, X7R, CL Series; Capacitance: 10nF; Voltage Rating: 16V; Supplier 1: Digi-Key; Supplier Part Number 1: 1276-1051-1-ND; Manufacturer: Samsung; Manufacturer Part Number: CL05B103KO5NNNC; RoHS: Yes; Category: Ceramic Capacitors; Stock 1: 2979671; Pricing 1: 1=0.10000, 10=0.01600, 50=0.00880, 100=0.00710, 500=0.00508, 1000=0.00399, 2500=0.00363, 5000=0.00334 (USD); Mount: Surface Mount; Case/Package: 0402; Case Code (Metric): 1005; Case Code (Imperial): 0402; Material: Ceramic; Min Operating Temperature: -55°C; Max Operating Temperature: 125°C; Tolerance: 10%; Dielectric: X7R; Package Quantity: 1; Packaging: Tape and Reel; Voltage: 16V; Series: CL; Construction: Flat; Length: 1mm; Width: 0.02inch; Height: 0.5mm; Thickness: 0.022inch; Depth: 0.5mm; Radiation Hardening: No; RoHS Compliant: Yes; ComponentLink1URL: https://datasheet.ciiva.com/16199/cl05b103ko5nnnc-16199040.pdf?src-supplier=Future+Electronics; ComponentLink1Description: https://datasheet.ciiva.com/16199/cl05b103ko5nnnc-16199040.pdf?src-supplier=Future+Electronics; ComponentLink2URL: https://datasheet.ciiva.com/15195/getdatasheetpartid-358673-15195638.pdf?src-supplier=Verical; ComponentLink2Description: https://datasheet.ciiva.com/15195/getdatasheetpartid-358673-15195638.pdf?src-supplier=Verical; ComponentLink3URL: https://datasheet.ciiva.com/29198/458774-da-01-en-vs-kondensator-0402-29198435.pdf?src-supplier=Conrad; ComponentLink3Description: https://datasheet.ciiva.com/29198/458774-da-01-en-vs-kondensator-0402-29198435.pdf?src-supplier=Conrad; ComponentLink4URL: https://datasheet.ciiva.com/25806/cl05b103ko5nnnc-25806933.pdf?src-supplier=Digi-Key; ComponentLink4Description: https://datasheet.ciiva.com/25806/cl05b103ko5nnnc-25806933.pdf?src-supplier=Digi-Key
footprint C0402
pins: 1, 2

## CL05C180JB5NNNC
designator C?, comment 18p
CAP CER 18PF 50V C0G/NP0 0402; Manufacturer: Samsung; Manufacturer Part Number: CL05C180JB5NNNC; Material: Ceramic; Dielectric: C0G; Tolerance: 5%; Temperature Coefficient: 300ppm/°C; Supplier 1: Digi-Key; Supplier Part Number 1: 1276-1140-1-ND; RoHS: Yes; Category: Ceramic Capacitors; Stock 1: 647155; Pricing 1: 1=0.10000, 10=0.03600, 50=0.01940, 100=0.01590, 500=0.01136, 1000=0.00892, 2500=0.00811, 5000=0.00746 (USD); Mount: Surface Mount; Case/Package: 0402; Case Code (Imperial): 0402; Case Code (Metric): 1005; Contact Plating: Tin; Min Operating Temperature: -55°C; Max Operating Temperature: 125°C; Capacitance: 18pF; Voltage: 50V; Package Quantity: 1; Packaging: Tape and Reel; Voltage Rating: 50V; Length: 1mm; Width: 0.02inch; Height: 0.5mm; Thickness: 0.022inch; Depth: 0.5mm; Radiation Hardening: No; ComponentLink1URL: https://datasheet.ciiva.com/15195/getdatasheetpartid-482699-15195673.pdf?src-supplier=Verical; ComponentLink1Description: https://datasheet.ciiva.com/15195/getdatasheetpartid-482699-15195673.pdf?src-supplier=Verical; ComponentLink2URL: https://datasheet.ciiva.com/29198/458675-da-01-en-vs-kondensator-0402-29198417.pdf?src-supplier=Conrad; ComponentLink2Description: https://datasheet.ciiva.com/29198/458675-da-01-en-vs-kondensator-0402-29198417.pdf?src-supplier=Conrad; ComponentLink3URL: https://datasheet.ciiva.com/26309/mlcc-catalogdownload2013-eng-26309006.pdf?src-supplier=Distrelec; ComponentLink3Description: https://datasheet.ciiva.com/26309/mlcc-catalogdownload2013-eng-26309006.pdf?src-supplier=Distrelec
footprint C0402
pins: 1, 2

## CL10A475KP8NNNC
designator C?, comment 4.7u
Cap Ceramic 4.7uF 10V X5R 10% Pad SMD 0603 85C T/R; Manufacturer: Samsung; Manufacturer Part Number: CL10A475KP8NNNC; Supplier 1: Digi-Key; Supplier Part Number 1: 1276-1044-1-ND; RoHS: Yes; Category: Ceramic Capacitors; Stock 1: 3477192; Pricing 1: 1=0.10000, 10=0.04700, 50=0.02560, 100=0.02090, 500=0.01490, 1000=0.01171 (USD); Mount: Surface Mount; Case/Package: 0603; Case Code (Metric): 1608; Case Code (Imperial): 0603; Contact Plating: Tin; Min Operating Temperature: -55°C; Max Operating Temperature: 85°C; Tolerance: 10%; Capacitance: 4.7uF; Dielectric: X5R; Package Quantity: 1; Packaging: Tape and Reel; Voltage Rating: 10V; Series: CL; Construction: Flat; Length: 1.6mm; Width: 0.031inch; Height: 0.8mm; Thickness: 0.035inch; Depth: 0.8mm; Radiation Hardening: No; RoHS Compliant: Yes; ComponentLink1URL: https://datasheet.ciiva.com/25797/cl10a475kp8nnnc-25797520.pdf?src-supplier=Digi-Key; ComponentLink1Description: https://datasheet.ciiva.com/25797/cl10a475kp8nnnc-25797520.pdf?src-supplier=Digi-Key; ComponentLink2URL: https://datasheet.ciiva.com/26838/getdatasheetpartid-358676-26838384.pdf?src-supplier=Verical; ComponentLink2Description: https://datasheet.ciiva.com/26838/getdatasheetpartid-358676-26838384.pdf?src-supplier=Verical; ComponentLink3URL: https://datasheet.ciiva.com/16318/cl05b104kq5nnnc-16318245.pdf?src-supplier=Future+Electronics; ComponentLink3Description: https://datasheet.ciiva.com/16318/cl05b104kq5nnnc-16318245.pdf?src-supplier=Future+Electronics
footprint C0603
pins: 1, 2

## CL21A106KOQNNNE
designator C?, comment 10u
SAMSUNG ELECTRO-MECHANICS - CL21A106KOQNNNE - SMD Multilayer Ceramic Capacitor, 10 µF, 16 V, 0805 [2012 Metric], ± 10%, X5R, CL Series; Capacitance: 10uF; Voltage Rating: 16V; Dielectric: X7R; Supplier 1: Digi-Key; Supplier Part Number 1: 1276-1096-1-ND; Manufacturer: Samsung; Manufacturer Part Number: CL21A106KOQNNNE; RoHS: Yes; Category: Ceramic Capacitors; Stock 1: 1393610; Pricing 1: 1=0.12000, 10=0.09000, 50=0.04900, 100=0.04000, 500=0.02860, 1000=0.02248 (USD); Mount: Surface Mount; Case/Package: 0805; Case Code (Metric): 2012; Case Code (Imperial): 0805; Min Operating Temperature: -55°C; Max Operating Temperature: 85°C; Package Quantity: 1; Packaging: Tape and Reel; Tolerance: 10%; Voltage Rating (DC): 16V; Series: CL; Construction: Flat; Voltage: 16V; Length: 2mm; Width: 0.049inch; Height: 1.25mm; Thickness: 0.055inch; Depth: 1.25mm; Radiation Hardening: No; Lead Free: Lead Free; RoHS Compliant: Yes; ComponentLink1URL: https://datasheet.ciiva.com/15216/getdatasheetpartid-358435-15216234.pdf?src-supplier=Verical; ComponentLink1Description: https://datasheet.ciiva.com/15216/getdatasheetpartid-358435-15216234.pdf?src-supplier=Verical; ComponentLink2URL: https://datasheet.ciiva.com/25798/cl21a106koqnnne-25798133.pdf?src-supplier=Digi-Key; ComponentLink2Description: https://datasheet.ciiva.com/25798/cl21a106koqnnne-25798133.pdf?src-supplier=Digi-Key; ComponentLink3URL: https://datasheet.ciiva.com/16740/cl05b104kq5nnnc-16740697.pdf?src-supplier=Future+Electronics; ComponentLink3Description: https://datasheet.ciiva.com/16740/cl05b104kq5nnnc-16740697.pdf?src-supplier=Future+Electronics
footprint C0805 (Chip Capacitor, 2-Leads, Body 2.00x1.25mm, IPC Medium Density)
pins: 1, 2

## CL31A106MBHNNNE
designator C?, comment 10u
CAP CER 10UF 50V X5R 1206; Manufacturer: Samsung; Manufacturer Part Number: CL31A106MBHNNNE; Tolerance: 20%; Supplier 1: Digi-Key; RoHS: Yes; Category: Ceramic Capacitors; Stock 1: 112342; Pricing 1: 1=0.30000, 10=0.20400, 50=0.13580, 100=0.11550, 500=0.08150, 1000=0.07131 (USD); Mount: Surface Mount; Case/Package: 1206; Case Code (Imperial): 1206; Case Code (Metric): 3216; Min Operating Temperature: -55°C; Max Operating Temperature: 85°C; Dielectric: X5R; Voltage Rating (DC): 50V; Packaging: Tape and Reel; Capacitance: 10uF; Voltage Rating: 50V; Length: 0.126inch; Width: 0.063inch; Thickness: 0.071inch; ComponentLink1URL: http://www.samsungsem.com/kr/support/product-search/mlcc/CL31A106MBHNNNE.jsp?src-supplier=Digi-Key; ComponentLink1Description: http://www.samsungsem.com/kr/support/product-search/mlcc/CL31A106MBHNNNE.jsp?src-supplier=Digi-Key; Supplier Part Number 1: 1276-6736-1-ND
footprint C1206 (Chip Capacitor, 2-Leads, Body 3.20x1.60mm, IPC Medium Density)
pins: 1, 2

## CM7VT1A-LOWESR-32.768KHZ-12.5PF-20-TA-QC
designator Y?, comment 32.768kHz
32.768 kHz crystal oscillator, 12.5 pF 50k ESR; Manufacturer: Micro Crystal; Manufacturer Part Number: CM7VT1A-LOWESR-32.768KHZ-12.5PF-20-TA-QC; Supplier 1: Digi-Key; Supplier Part Number 1: 2195-CM7VT1ALOWESR32.768KHZ12.5PF20TAQCCT-ND; RoHS: No; Stock 1: 2790; Pricing 1: 1=0.47000, 10=0.39400, 50=0.35440, 100=0.31500, 500=0.29924 (USD)
footprint CM7V-T1A
pins: 1, 2

## DFE201610E-1R5M=P2
designator L?, comment 1.5u
Inductor Power Shielded Wirewound 1.5uH 20% 1MHz Metal 2.1A 0.091Ohm DCR 0806 T/R; Manufacturer: Murata; Manufacturer Part Number: DFE201610E-1R5M=P2; Supplier 1: Digi-Key; Supplier Part Number 1: 490-18107-1-ND; RoHS: Yes; Category: Fixed Inductors; Stock 1: 1449; Pricing 1: 1=0.42000, 10=0.36800, 25=0.34120, 50=0.28880, 100=0.26250, 250=0.24676, 500=0.22050, 1000=0.17850 (USD); RoHS Compliant: Yes
footprint L0806 (Chip Inductor, 2-Leads, Body 2.00x1.60mm, IPC Medium Density)
pins: 1, 2

## EEU-FM1H101
designator C?, comment 100u
PANASONIC ELECTRONIC COMPONENTS - EEUFM1H101 - CAP, ALU ELEC, 100UF, 50V, RAD; Manufacturer Part Number: EEU-FM1H101; Ripple Current: 870mA; Tolerance: 20%; Life (Hours): 3000Hour; ESR (Equivalent Series Resistance): 61mR; Polarity: Polar; Dissipation Factor: 0.1%; Lead Diameter: 0.6mm; Manufacturer: Panasonic; RoHS: Yes; Category: Aluminum Electrolytic Capacitors; Stock 1: 5906; Pricing 1: 1=0.42000, 10=0.29500, 50=0.20660, 100=0.17700, 500=0.13278, 1000=0.11212, 2500=0.10622, 5000=0.10032 (USD); Mount: Through Hole,PCB; Case/Package: Radial; Contact Plating: Tin; Min Operating Temperature: -40°C; Max Operating Temperature: 105°C; Capacitance: 100uF; Termination: Radial; Packaging: Bulk; Voltage Rating (DC): 50V; Package Quantity: 200; Voltage Rating: 50V; Impedance: 61mR; Voltage: 50V; Diameter: 8mm; Length: 11.5mm; Height: 11.5mm; Lead Pitch: 3.5mm; Height - Seated (Max): 0.512inch; Radiation Hardening: No; Lead Free: Lead Free; REACH SVHC: No SVHC; ComponentLink1URL: https://datasheet.ciiva.com/19479/1985569-19479304.pdf?src-supplier=Jameco; ComponentLink1Description: https://datasheet.ciiva.com/19479/1985569-19479304.pdf?src-supplier=Jameco; ComponentLink2URL: https://datasheet.ciiva.com/11777/0900766b805f3abe-11777837.pdf?src-supplier=RSComponents; ComponentLink2Description: https://datasheet.ciiva.com/11777/0900766b805f3abe-11777837.pdf?src-supplier=RSComponents; ComponentLink3URL: https://datasheet.ciiva.com/43454/1678946-43454655.pdf?src-supplier=Farnell; ComponentLink3Description: https://datasheet.ciiva.com/43454/1678946-43454655.pdf?src-supplier=Farnell; ComponentLink4URL: https://datasheet.ciiva.com/2984/aba0000ce108-2984065.pdf?src-supplier=Avnet; ComponentLink4Description: https://datasheet.ciiva.com/2984/aba0000ce108-2984065.pdf?src-supplier=Avnet; ComponentLink5URL: https://datasheet.ciiva.com/93/aba0000ce108-93030.pdf?src-supplier=Digi-Key; ComponentLink5Description: https://datasheet.ciiva.com/93/aba0000ce108-93030.pdf?src-supplier=Digi-Key; ComponentLink6URL: https://datasheet.ciiva.com/25899/aba0000ce108-25899433.pdf?src-supplier=Avnet+Europe; ComponentLink6Description: https://datasheet.ciiva.com/25899/aba0000ce108-25899433.pdf?src-supplier=Avnet+Europe; ComponentLink7URL: https://datasheet.ciiva.com/30233/aba0000ce108-30233323.pdf?src-supplier=Onlinecomponents.com; ComponentLink7Description: https://datasheet.ciiva.com/30233/aba0000ce108-30233323.pdf?src-supplier=Onlinecomponents.com; ComponentLink8URL: https://datasheet.ciiva.com/18442/70068540-18442844.pdf?src-supplier=Allied+Electronics; ComponentLink8Description: https://datasheet.ciiva.com/18442/70068540-18442844.pdf?src-supplier=Allied+Electronics; ComponentLink9URL: https://datasheet.ciiva.com/3773/41677975s7076861n1386-3773626.pdf?src-supplier=Arrow+Electronics; ComponentLink9Description: https://datasheet.ciiva.com/3773/41677975s7076861n1386-3773626.pdf?src-supplier=Arrow+Electronics; Supplier 1: Newark; Supplier Part Number 1: 62W7950
footprint C8x11.5x3.5
pins: 1, 2

## ERA-3AEB4992V
designator R?, comment 49.9k
RES SMD 49.9KOHM 0.1% 1/10W 0603; Manufacturer: Panasonic; Manufacturer Part Number: ERA-3AEB4992V; Resistance: 49.9kR; Temperature Coefficient: 25ppm/°C; Power Rating: 100mW; Voltage Rating: 75V; RoHS: Yes; Category: Chip SMD Resistors; Stock 1: 25051; Pricing 1: 1=0.31000, 10=0.26000, 100=0.10150, 1000=0.04248, 2500=0.03894 (USD); Mount: Surface Mount; Case/Package: 0603; Number of Pins: 2; Contact Plating: Tin; Case Code (Metric): 1608; Case Code (Imperial): 0603; Min Operating Temperature: -55°C; Max Operating Temperature: 155°C; Tolerance: 0.1%; Resistor Type: Thin Film,Metal Film; Packaging: Tape and Reel; Package Quantity: 1; Number of Terminations: 2; Termination: SMD/SMT; Max Power Dissipation: 100mW; Voltage Rating (DC): 75V; Features: Automotive AEC-Q200; Length: 1.6mm; Width: 0.8mm; Height: 0.45mm; Depth: 0.8mm; Radiation Hardening: No; REACH SVHC: No SVHC; Military Standard: Not; Lead Free: Lead Free; ComponentLink1URL: https://datasheet.ciiva.com/11812/0900766b80eb1d8c-11812018.pdf?src-supplier=RSComponents; ComponentLink1Description: https://datasheet.ciiva.com/11812/0900766b80eb1d8c-11812018.pdf?src-supplier=RSComponents; ComponentLink2URL: https://datasheet.ciiva.com/29183/451874-da-01-en-widerstand-0603-era-29183904.pdf?src-supplier=Conrad; ComponentLink2Description: https://datasheet.ciiva.com/29183/451874-da-01-en-widerstand-0603-era-29183904.pdf?src-supplier=Conrad; ComponentLink3URL: https://datasheet.ciiva.com/5998/485442-5998330.pdf?src-supplier=Farnell; ComponentLink3Description: https://datasheet.ciiva.com/5998/485442-5998330.pdf?src-supplier=Farnell; ComponentLink4URL: https://datasheet.ciiva.com/7861/485442-7861691.pdf?src-supplier=Element14; ComponentLink4Description: https://datasheet.ciiva.com/7861/485442-7861691.pdf?src-supplier=Element14; ComponentLink5URL: https://datasheet.ciiva.com/5998/485442-5998334.pdf?src-supplier=Farnell; ComponentLink5Description: https://datasheet.ciiva.com/5998/485442-5998334.pdf?src-supplier=Farnell; ComponentLink6URL: https://datasheet.ciiva.com/30157/54aoa0000ce26-30157031.pdf?src-supplier=Onlinecomponents.com; ComponentLink6Description: https://datasheet.ciiva.com/30157/54aoa0000ce26-30157031.pdf?src-supplier=Onlinecomponents.com; ComponentLink7URL: https://datasheet.ciiva.com/5998/485442-5998332.pdf?src-supplier=Farnell; ComponentLink7Description: https://datasheet.ciiva.com/5998/485442-5998332.pdf?src-supplier=Farnell; ComponentLink8URL: https://datasheet.ciiva.com/46422/485442-46422700.pdf?src-supplier=Element14; ComponentLink8Description: https://datasheet.ciiva.com/46422/485442-46422700.pdf?src-supplier=Element14; Supplier 1: Digi-Key; Supplier Part Number 1: P49.9KDBCT-ND; Supplier 2: Arrow Electronics; Supplier Part Number 2: ERA-3AEB4992V; Supplier 3: Mouser; Supplier Part Number 3: 667-ERA-3AEB4992V
footprint R0603
pins: 1, 2

## ERA-3AEB9531V
designator R?, comment 9.53k
RES SMD 9.53KOHM 0.1% 1/10W 0603; Manufacturer: Panasonic; Manufacturer Part Number: ERA-3AEB9531V; Temperature Coefficient: 25ppm/°C; Resistance: 9.53kR; Voltage Rating (DC): 75V; Power Rating: 100mW; Supplier 1: Digi-Key; RoHS: Yes; Category: Chip SMD Resistors; Stock 1: 27415; Pricing 1: 1=0.31000, 10=0.26000, 100=0.10150, 1000=0.04248, 2500=0.03894 (USD); Mount: Surface Mount; Case/Package: 0603; Number of Pins: 2; Contact Plating: Tin; Case Code (Imperial): 0603; Case Code (Metric): 1608; Min Operating Temperature: -55°C; Max Operating Temperature: 155°C; Resistor Type: Metal Film,Thin Film; Tolerance: 0.1%; Number of Terminations: 2; Features: Automotive AEC-Q200; Voltage Rating: 75V; Package Quantity: 5000; Packaging: Tape and Reel; Max Power Dissipation: 100mW; Length: 1.6mm; Width: 0.8mm; Height: 0.45mm; Depth: 0.8mm; Radiation Hardening: No; Military Standard: Not; Lead Free: Lead Free; ComponentLink1URL: https://datasheet.ciiva.com/11811/0900766b80eb1d8c-11811912.pdf?src-supplier=RSComponents; ComponentLink1Description: https://datasheet.ciiva.com/11811/0900766b80eb1d8c-11811912.pdf?src-supplier=RSComponents; ComponentLink2URL: https://datasheet.ciiva.com/29184/452443-da-01-en-widerstand-0603-era-29184006.pdf?src-supplier=Conrad; ComponentLink2Description: https://datasheet.ciiva.com/29184/452443-da-01-en-widerstand-0603-era-29184006.pdf?src-supplier=Conrad; ComponentLink3URL: https://datasheet.ciiva.com/5987/485442-5987161.pdf?src-supplier=Farnell; ComponentLink3Description: https://datasheet.ciiva.com/5987/485442-5987161.pdf?src-supplier=Farnell; ComponentLink4URL: https://datasheet.ciiva.com/7829/485442-7829102.pdf?src-supplier=Element14; ComponentLink4Description: https://datasheet.ciiva.com/7829/485442-7829102.pdf?src-supplier=Element14; ComponentLink5URL: https://datasheet.ciiva.com/9194/aoa0000ce26-9194167.pdf?src-supplier=Avnet; ComponentLink5Description: https://datasheet.ciiva.com/9194/aoa0000ce26-9194167.pdf?src-supplier=Avnet; ComponentLink6URL: https://datasheet.ciiva.com/5987/485442-5987164.pdf?src-supplier=Farnell; ComponentLink6Description: https://datasheet.ciiva.com/5987/485442-5987164.pdf?src-supplier=Farnell; ComponentLink7URL: https://datasheet.ciiva.com/5987/485442-5987166.pdf?src-supplier=Farnell; ComponentLink7Description: https://datasheet.ciiva.com/5987/485442-5987166.pdf?src-supplier=Farnell; Supplier Part Number 1: P9.53KDBCT-ND
footprint R0603
pins: 1, 2

## ERJ-1GN0R00C
designator R?, comment 0
ERJ Series 0201 0 Ohm 0.05 W Jumper Surface Mount Thick Film Chip Resistor; Manufacturer: Panasonic; Manufacturer Part Number: ERJ-1GN0R00C; Resistance: 0R; Power Rating: 50mW; Tolerance: 1%; Voltage Rating: 25V; Temperature Coefficient: 600ppm/°C; Supplier 1: Digi-Key; Supplier Part Number 1: P15979CT-ND; RoHS: Yes; Category: Chip SMD Resistors; Stock 1: 2368857; Pricing 1: 1=0.10000, 10=0.02500, 25=0.01800, 50=0.01360, 100=0.01000, 250=0.00764, 500=0.00612, 1000=0.00450, 5000=0.00323 (USD); Mount: Surface Mount; Case/Package: 0201; Case Code (Imperial): 0201; Case Code (Metric): 0603; Contact Plating: Tin; Min Operating Temperature: -55°C; Max Operating Temperature: 125°C; Packaging: Tape and Reel; Package Quantity: 15000; Resistor Type: Thick Film; Voltage Rating (DC): 25V; Features: Automotive AEC-Q200; Series: ERJ; Max Power Dissipation: 50mW; Number of Terminations: 2; Construction: Rectangular; Length: 0.6mm; Width: 0.3mm; Height: 0.23mm; Depth: 0.3mm; REACH SVHC: Unknown; Military Standard: Not; Lead Free: Lead Free; RoHS Compliant: Yes; ComponentLink1URL: https://datasheet.ciiva.com/22730/1678796-22730749.pdf?src-supplier=Element14; ComponentLink1Description: https://datasheet.ciiva.com/22730/1678796-22730749.pdf?src-supplier=Element14
footprint R0201 (Chip Resistor, 2-Leads, Body 0.60x0.30mm, IPC Medium Density)
pins: 1, 2